# Altium schematic symbol library dvrk-s-pwm_1.SCHLIB: 54 symbols (part 2 of 2)
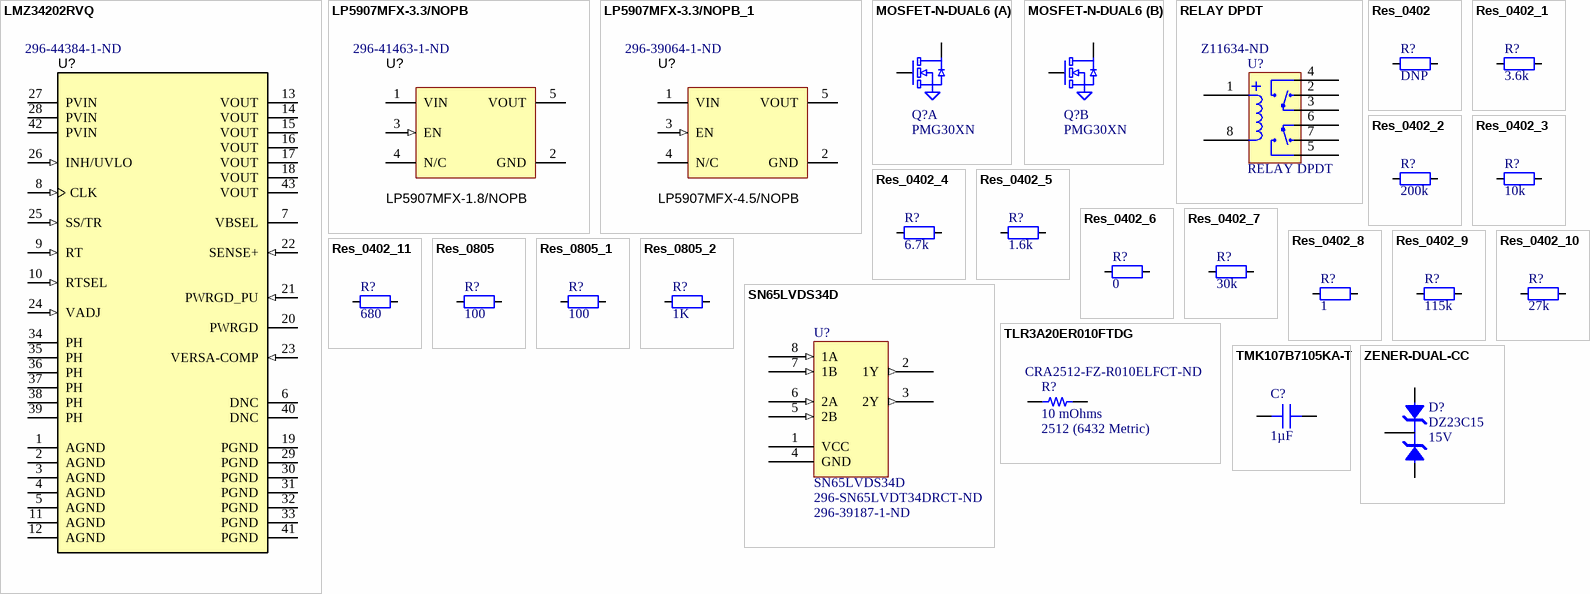
[diagram p2: symbols LMZ34202RVQ to ZENER-DUAL-CC]

## Res_0402_9
designator R?, comment value 115k  (hidden comment: Res_0402)
Resistor
footprint RESC1005X40X25NL05T05 (Chip Resistor, 2-Leads, Body 1.05x0.55mm, IPC Medium Density)
pins: 1, 2

## Res_0402_10
designator R?, comment value 27k  (hidden comment: Res_0402)
Resistor
footprint RESC1005X40X25NL05T05 (Chip Resistor, 2-Leads, Body 1.05x0.55mm, IPC Medium Density)
pins: 1, 2

## Res_0402_11
designator R?, comment value 680  (hidden comment: Res_0402)
Resistor
footprint RESC1005X40X25NL05T05 (Chip Resistor, 2-Leads, Body 1.05x0.55mm, IPC Medium Density)
pins: 1, 2

## Res_0805
designator R?  value 100  (hidden comment: Res_0805)
Resistor
footprint RESC2013X60X40NL20T25 (Chip Resistor, 2-Leads, Body 2.00x1.25mm, IPC Medium Density)
pins: 1, 2

## Res_0805_1
designator R?, comment value 100  (hidden comment: Res_0805)
Resistor
footprint RESC2013X60X40NL20T25 (Chip Resistor, 2-Leads, Body 2.00x1.25mm, IPC Medium Density)
pins: 1, 2

## Res_0805_2
designator R?, comment value 1K  (hidden comment: Res_0805)
Resistor
footprint RESC2013X60X40NL20T25 (Chip Resistor, 2-Leads, Body 2.00x1.25mm, IPC Medium Density)
pins: 1, 2

## SN65LVDS34D
designator U?  Supplier Part Number 1: 296-SN65LVDT34DRCT-ND  Supplier Part Number 2: 296-39187-1-ND
LVDS Receiver 8-Pin SOIC T/R; Manufacturer: Texas Instruments; Manufacturer Part Number: SN65LVDS34DR; Number of Receivers: 4; Operating Supply Voltage: 3.3V; Propagation Delay: 9ns; Max Power Dissipation: 950mW; Nominal Supply Current: 12mA; Max Supply Voltage: 3.6V; Min Supply Voltage: 3V; Data Rate: 400Mbps; Receiver Hysteresis: 50mV; Max Input Current: 75uA; Stock 1: 3654; Pricing 1: 1=2.27, 10=2.042, 100=1.641, 500=1.34828, 1000=1.11714 (USD); Mount: Surface Mount; Case/Package: SOIC; Number of Pins: 8; Weight: 0.002561oz; Contact Plating: Gold; Min Operating Temperature: -40°C; Max Operating Temperature: 85°C; Packaging: Tape and Reel; Package Quantity: 2500; Number of Elements: 4; Number of Drivers: 4; Turn-On Delay Time: 9ns; Power Dissipation: 950mW; Logic Function: Receiver; Lead Free: Lead Free; ComponentLink1URL: https://datasheet.ciiva.com/1770/sn65lvdt33-1770664.pdf; ComponentLink1Description: https://datasheet.ciiva.com/1770/sn65lvdt33-1770664.pdf; ComponentLink2URL: https://datasheet.ciiva.com/3152/sn65lvds33-3152872.pdf; ComponentLink2Description: https://datasheet.ciiva.com/3152/sn65lvds33-3152872.pdf; RoHS: Yes; Category: Interface ICs; Stock 2: 2291; Pricing 2: 1=2.75000, 10=2.47200, 25=2.33200, 100=1.86560, 250=1.63240, 500=1.58576, 1000=1.25928 (USD); Series: 65LVDT; Supply Current: 12mA; Radiation Hardening: No; RoHS Compliant: Yes; ComponentLink3URL: https://datasheet.ciiva.com/15133/getdatasheetpartid-524946-15133570.pdf?src-supplier=Verical; ComponentLink3Description: https://datasheet.ciiva.com/15133/getdatasheetpartid-524946-15133570.pdf?src-supplier=Verical; ComponentLink4URL: https://datasheet.ciiva.com/26828/sn65lvdt34dr-26828764.pdf?src-supplier=IIIC; ComponentLink4Description: https://datasheet.ciiva.com/26828/sn65lvdt34dr-26828764.pdf?src-supplier=IIIC; ComponentLink5URL: https://datasheet.ciiva.com/1770/sn65lvdt33-1770866.pdf?src-supplier=Digi-Key; ComponentLink5Description: https://datasheet.ciiva.com/1770/sn65lvdt33-1770866.pdf?src-supplier=Digi-Key; ComponentLink6URL: https://datasheet.ciiva.com/3153/sn65lvds33-3153018.pdf?src-supplier=Avnet; ComponentLink6Description: https://datasheet.ciiva.com/3153/sn65lvds33-3153018.pdf?src-supplier=Avnet; ComponentLink7URL: https://datasheet.ciiva.com/26002/slls490b-26002508.pdf?src-supplier=Avnet+Europe; ComponentLink7Description: https://datasheet.ciiva.com/26002/slls490b-26002508.pdf?src-supplier=Avnet+Europe; Supplier 1: Digi-Key; Supplier 2: Digi-Key
footprint D8_L (SOIC, 8-Leads, Body 4.9x3.9mm, Pitch 1.27mm, IPC High Density)
footprint D8_N
footprint SOIC127P600X175-8N
pins: 1 VCC (power), 2 1Y (out), 3 2Y (out), 4 GND (power), 5 2B (in), 6 2A (in), 7 1B (in), 8 1A (in)

## TLR3A20ER010FTDG
designator R?, comment 10 mOhms  Package / Case: 2512 (6432 Metric)  Supplier Part Number 1: CRA2512-FZ-R010ELFCT-ND
RES 0.01 OHM 1% 2W 2512; Part Number: TLR3A20ER010FTDG; Manufacturer: TE Connectivity Passive Product; Temperature Coefficient: ±100ppm/°C; ComponentLink1Description: Datasheet; ComponentLink1URL: https://www.te.com/commerce/DocumentDelivery/DDEController?Action=srchrtrv&DocNm=1773449-3&DocType=DS&DocLang=English; ComponentLink2Description: DigiKey Link; ComponentLink2URL: http://digikey.com/product-detail/en/te-connectivity-passive-product/TLR3A20ER010FTDG/A129568CT-ND/8566772; Composition: Metal Foil; Device Package: 2512 (6432 Metric); Features: Current Sense; Height - Seated (Max): 0.024" (0.60mm); LastUpdated: 9/2/2020 1:18:04 AM; Lifecycle Status: Active; Minimum Order: 1; Number of Terminations: 2; Operating Temperature: -55°C ~ 170°C; Packaging: TapeAndReel; PartId: 1895; Part Status: Active; Power (Watts): 2W; Price: 0.30; Resistance: 10 mOhms; Series: TLR, CGS; Size / Dimension: 0.252" L x 0.126" W (6.40mm x 3.20mm); Supplier Device Package: 2512; Tolerance: ±1%; Value: 10 mOhms; Supplier 1: Digi-Key
footprint STACKPOLE CSR2512
pins: 1, 2

## TMK107B7105KA-T
designator C?, comment 1µF
CAP CER 1UF 25V X7R 0603; Part Number: TMK107B7105KA-T; Manufacturer: Taiyo Yuden; Tolerance: ±10%; Value: 1µF; Applications: General Purpose; Capacitance: 1µF; ComponentLink1Description: Datasheet; ComponentLink1URL: https://www.yuden.co.jp/productdata/catalog/mlcc01_e.pdf; ComponentLink2Description: DigiKey Link; ComponentLink2URL: http://digikey.com/product-detail/en/taiyo-yuden/TMK107B7105KA-T/587-2984-1-ND/2714177; Device Package: 0603 (1608 Metric); LastUpdated: 9/2/2020 1:03:30 AM; Lifecycle Status: Active; Minimum Order: 1; Mounting Type: Surface Mount, MLCC; Operating Temperature: -55°C ~ 125°C; Package / Case: 0603 (1608 Metric); Packaging: TapeAndReel; PartId: 5586; Part Status: Active; Price: 0.01; Series: M; Size / Dimension: 0.063" L x 0.031" W (1.60mm x 0.80mm); Supplier 1: DigiKey; Supplier Part Number 1: 587-2984-1-ND; Temperature Coefficient: X7R; Thickness (Max): 0.035" (0.90mm); Voltage - Rated: 25V
footprint CAP 0603_1608
pins: 1, 2

## ZENER-DUAL-CC
designator D?, comment DZ23C15  Voltage: 15V
footprint SOT-23
pins: 1 A2, 2 A1, 3 A1